# Altium footprint library 3631AH.PcbLib: 1 footprints
Each footprint in its own frame and in the unit in brackets; x right, y up, seen from the top. Pads: shape width x height; smd on the part's side, far side on the other; paste and mask are expansions set on the pad; w line width, h text height; cw(c..) or ccw(c..) is an arc to the next point about the centre after c.
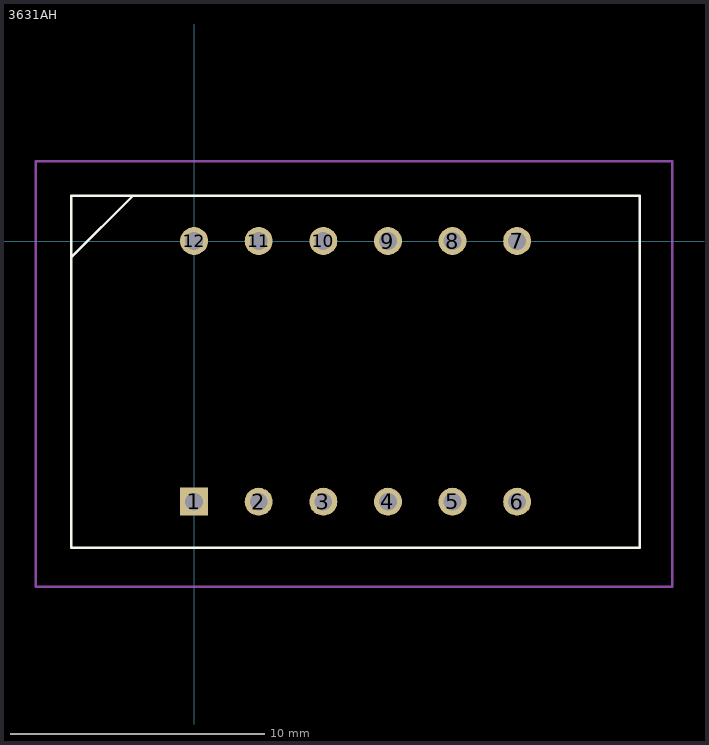
[diagram p0: the footprint, top view; thin cyan lines are the x and y axes]

## 3631AH [mm] "display de 7 seg de 3 digitos"
pads (12):
  rect 1.1x1.1 hole 0.7: 1(0,-10.25)
  round 1.1 hole 0.7: 2(2.54,-10.25) 3(5.08,-10.25) 4(7.62,-10.25) 5(10.16,-10.25) 6(12.7,-10.25) 7(12.7,0) 8(10.16,0) 9(7.62,0) 10(5.08,0) 11(2.54,0) 12(0,0)
Top Overlay:
  lines w0.1: -4.826,-0.635 -2.413,1.778 ; -4.826,-12.065 17.526,-12.065 17.526,1.778 -4.826,1.778 -4.826,-12.065
Mechanical 15:
  lines w0.1: -6.223,-13.589 18.796,-13.589 18.796,3.132 -6.223,3.132 -6.223,-13.589
3D body "7seg-3.STEP": height 6.1, standoff -7.11, extent -4.9,-12.064 17.6,1.905